# EAGLE library part MCOT160128BY-RGBM (library Rebel)
MIDAS MCOT160128BY-RGBM OLED, 160X128, PASSIVE, RGB, MULTI I/F
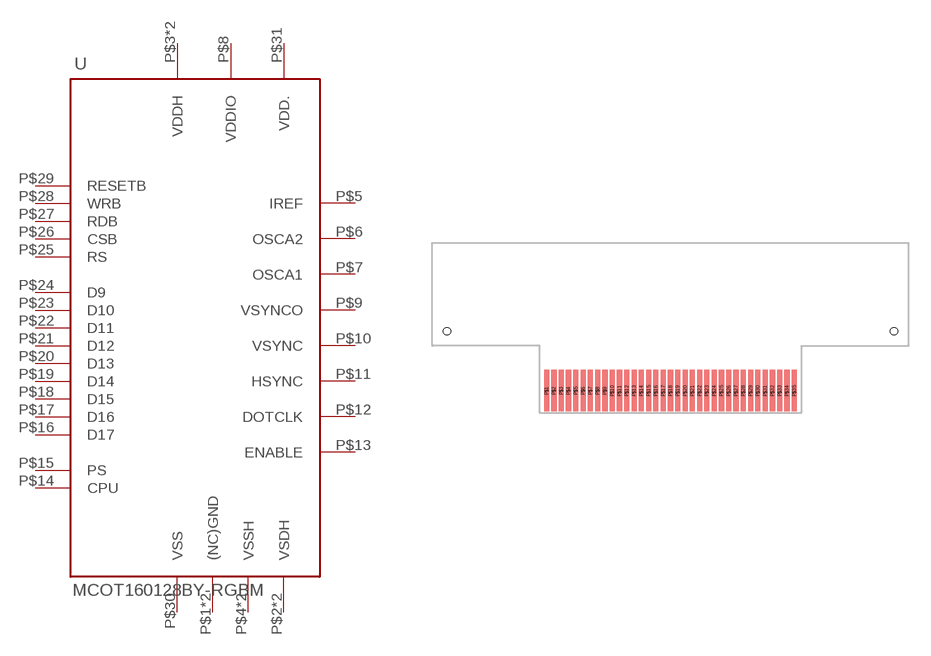
[diagram p19: symbol with the pads of MCOT160128BY-RGBM; footprint MCOT160128BY-RGBM]

Designator prefix -

## MCOT160128BY-RGBM  [MCOT160128BY-RGBM]
P$1  (NC)GND
P$2  VSDH
P$3  VDDH
P$4  VSSH
P$5  IREF
P$6  OSCA2
P$7  OSCA1
P$8  VDDIO
P$9  VSYNCO
P$10  VSYNC
P$11  HSYNC
P$12  DOTCLK
P$13  ENABLE
P$14  CPU
P$15  PS
P$16  D17
P$17  D16
P$18  D15
P$19  D14
P$20  D13
P$21  D12
P$22  D11
P$23  D10
P$24  D9
P$25  RS
P$26  CSB
P$27  RDB
P$28  WRB
P$29  RESETB
P$30  VSS
P$31  VDD.
P$32  VSSH
P$33  VDDH
P$34  VSDH
P$35  (NC)GND

## Footprint MCOT160128BY-RGBM (pad centres in mm)
MIDAS MCOT160128BY-RGBM OLED, 160X128, PASSIVE, RGB, MULTI I/F 1.7" 28.864mm x 35.575mm
smd 0.35 x 2.85: P$1 -8.5,0; P$2 -8,0; P$3 -7.5,0; P$4 -7,0; P$5 -6.5,0; P$6 -6,0; P$7 -5.5,0; P$8 -5,0; P$9 -4.5,0; P$10 -4,0; P$11 -3.5,0; P$12 -3,0; P$13 -2.5,0; P$14 -2,0; P$15 -1.5,0; P$16 -1,0; P$17 -0.5,0; P$18 0,0; P$19 0.5,0; P$20 1,0; P$21 1.5,0; P$22 2,0; P$23 2.5,0; P$24 3,0; P$25 3.5,0; P$26 4,0; P$27 4.5,0; P$28 5,0; P$29 5.5,0; P$30 6,0; P$31 6.5,0; P$32 7,0; P$33 7.5,0; P$34 8,0; P$35 8.5,0
hole 0.5 at -15.34,4.075
hole 0.5 at 15.34,4.075